# Altium footprint library Crystal.PcbLib: 185 footprints (part 8 of 12)
Each footprint in its own frame and in the unit in brackets; x right, y up, seen from the top. Pads: shape width x height; smd on the part's side, far side on the other; paste and mask are expansions set on the pad; w line width, h text height; cw(c..) or ccw(c..) is an arc to the next point about the centre after c.
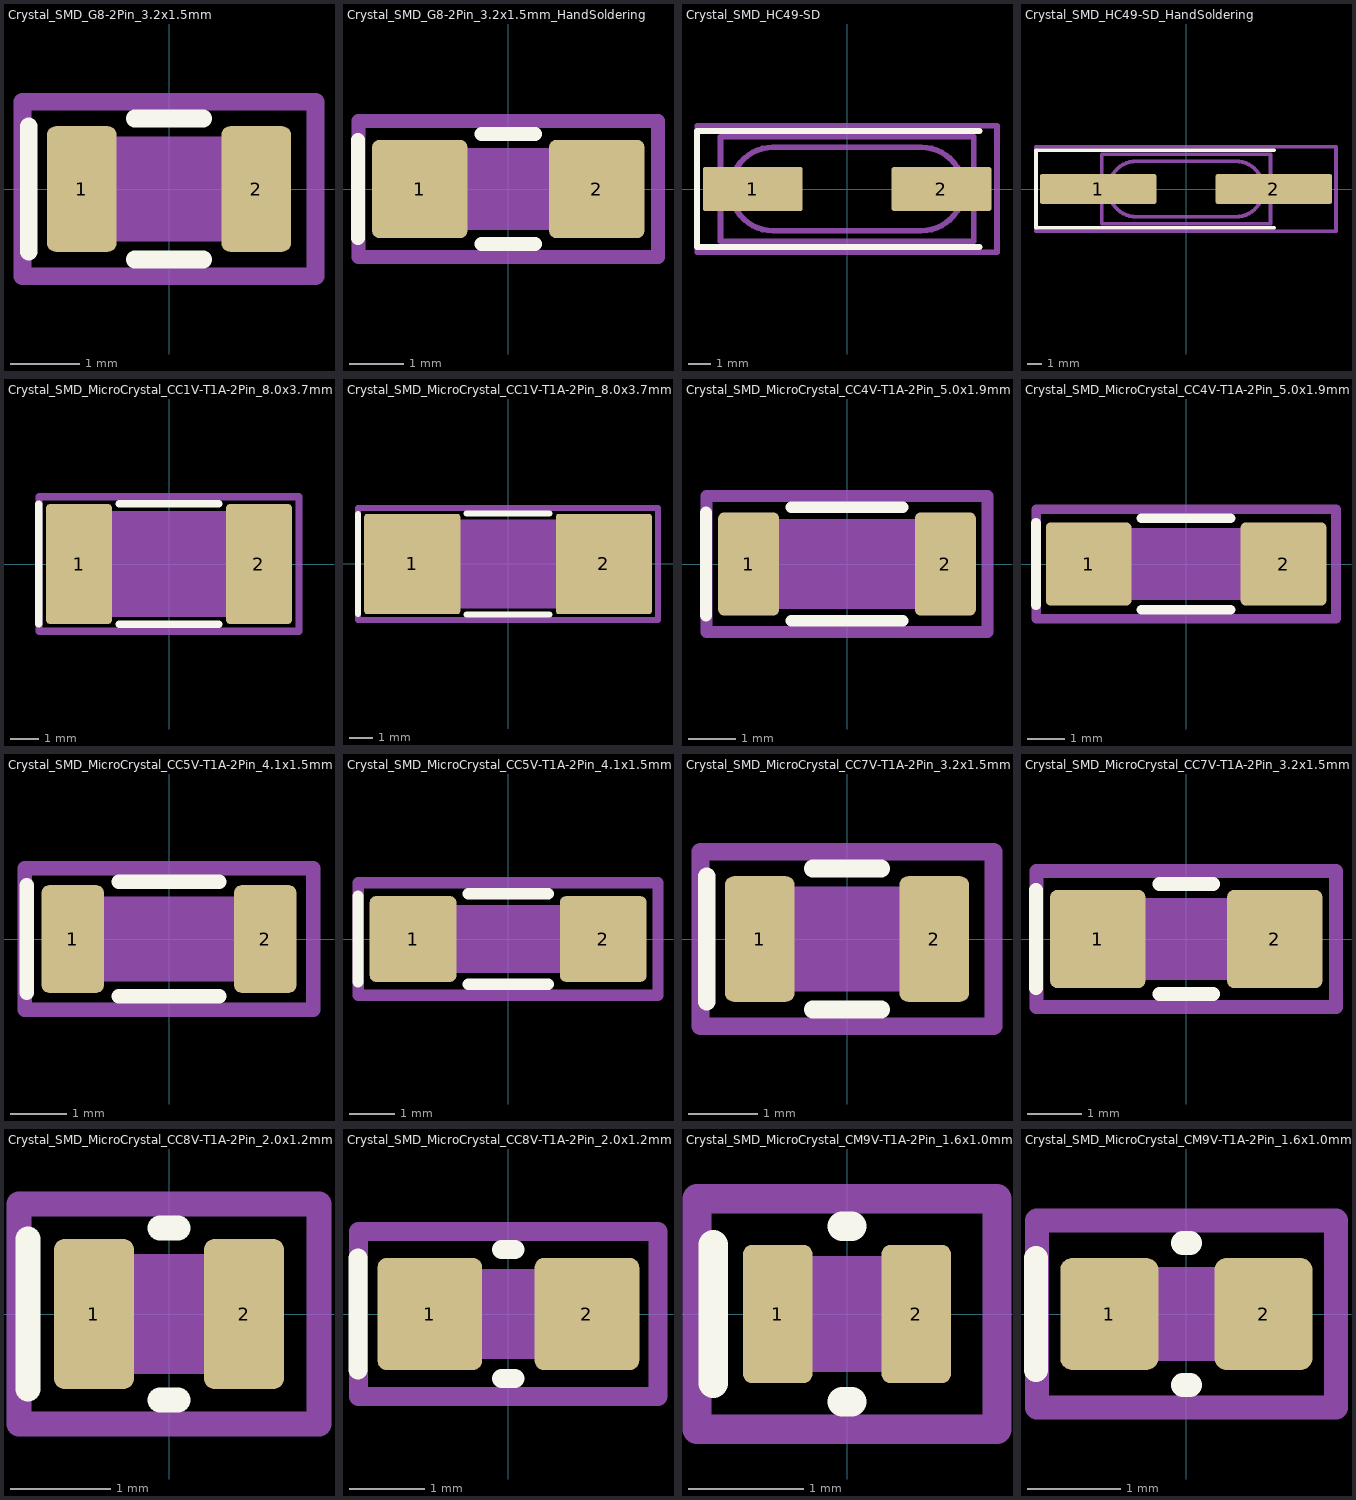
[diagram p7: the footprints below, top view; thin cyan lines are the x and y axes]

## Crystal_SMD_G8-2Pin_3.2x1.5mm [mm]
pads (2):
  rrect25% 1x1.8 smd: 1(-1.25,0) 2(1.25,0)
F.SilkS:
  lines w0.254: -2.01,-0.9 -2.01,0.9 ; -0.49,-1.01 0.49,-1.01 ; -0.49,1.01 0.49,1.01
Top Assembly:
  region: 1.6,-0.75 -1.225,-0.75 -1.6,-0.375 -1.6,0.75 1.6,0.75
  text "'.Designator'" at -3.237,-0.672 h0.8
Top Courtyard:
  lines w0.254: -2.1,-1.25 2.1,-1.25 2.1,1.25 -2.1,1.25 -2.1,-1.25
Top Designator:
  text ".Designator" at -7.738,-0.508 h1.52
Top Glue Points (Mech27):
  circle w0.254: c0,0 r0.25

## Crystal_SMD_G8-2Pin_3.2x1.5mm_HandSoldering [mm]
pads (2):
  rrect14% 1.75x1.8 smd: 1(-1.625,0) 2(1.625,0)
F.SilkS:
  lines w0.254: -2.76,-0.9 -2.76,0.9 ; -0.49,-1.01 0.49,-1.01 ; -0.49,1.01 0.49,1.01
Top Assembly:
  region: 1.6,-0.75 -1.225,-0.75 -1.6,-0.375 -1.6,0.75 1.6,0.75
  text "'.Designator'" at -3.237,-0.672 h0.8
Top Courtyard:
  lines w0.254: -2.75,-1.25 2.75,-1.25 2.75,1.25 -2.75,1.25 -2.75,-1.25
Top Designator:
  text ".Designator" at -7.738,-0.508 h1.52
Top Glue Points (Mech27):
  circle w0.254: c0,0 r0.25

## Crystal_SMD_HC49-SD [mm]
pads (2):
  rrect12% 4.5x2 smd: 1(-4.25,0) 2(4.25,0)
F.SilkS:
  lines w0.254: 5.96,-2.61 -6.76,-2.61 -6.76,2.61 5.96,2.61
Top Assembly:
  lines w0.254: -5.7,-2.35 5.7,-2.35 5.7,2.35 -5.7,2.35 -5.7,-2.35 ; -3.35,-1.88 cw(c-3.35,0) -3.35,1.88 3.35,1.88 cw(c3.35,0) 3.35,-1.88 -3.35,-1.88
  text "'.Designator'" at -4.047,-0.84 h1
Top Courtyard:
  lines w0.254: -6.75,-2.85 6.75,-2.85 6.75,2.85 -6.75,2.85 -6.75,-2.85
Top Designator:
  text ".Designator" at -7.623,-0.508 h1.52

## Crystal_SMD_HC49-SD_HandSoldering [mm]
pads (2):
  rrect12% 7.875x2 smd: 1(-5.937,0) 2(5.937,0)
F.SilkS:
  lines w0.254: 5.96,-2.61 -10.135,-2.61 -10.135,2.61 5.96,2.61
Top Assembly:
  lines w0.254: -5.7,-2.35 5.7,-2.35 5.7,2.35 -5.7,2.35 -5.7,-2.35 ; -3.35,-1.88 cw(c-3.35,0) -3.35,1.88 3.35,1.88 cw(c3.35,0) 3.35,-1.88 -3.35,-1.88
  text "'.Designator'" at -4.047,-0.84 h1
Top Courtyard:
  lines w0.254: -10.13,-2.85 10.13,-2.85 10.13,2.85 -10.13,2.85 -10.13,-2.85
Top Designator:
  text ".Designator" at -7.62,-0.508 h1.52

## Crystal_SMD_MicroCrystal_CC1V-T1A-2Pin_8.0x3.7mm [mm]
pads (2):
  rrect11% 2.3x4.2 smd: 1(-3.15,0) 2(3.15,0)
F.SilkS:
  lines w0.254: -4.56,-2.1 -4.56,2.1 ; -1.74,-2.11 1.74,-2.11 ; -1.74,2.11 1.74,2.11
Top Assembly:
  region: 4,-1.85 -3.075,-1.85 -4,-0.925 -4,1.85 4,1.85
  text "'.Designator'" at -4.047,-0.84 h1
Top Courtyard:
  lines w0.254: -4.55,-2.35 4.55,-2.35 4.55,2.35 -4.55,2.35 -4.55,-2.35
Top Designator:
  text ".Designator" at -7.623,-0.508 h1.52

## Crystal_SMD_MicroCrystal_CC1V-T1A-2Pin_8.0x3.7mm_HandSoldering [mm]
pads (2):
  rrect6% 4.025x4.2 smd: 1(-4.012,0) 2(4.012,0)
F.SilkS:
  lines w0.254: -6.285,-2.1 -6.285,2.1 ; -1.74,-2.11 1.74,-2.11 ; -1.74,2.11 1.74,2.11
Top Assembly:
  region: 4,-1.85 -3.075,-1.85 -4,-0.925 -4,1.85 4,1.85
  text "'.Designator'" at -4.047,-0.84 h1
Top Courtyard:
  lines w0.254: -6.28,-2.35 6.28,-2.35 6.28,2.35 -6.28,2.35 -6.28,-2.35
Top Designator:
  text ".Designator" at -7.62,-0.508 h1.52

## Crystal_SMD_MicroCrystal_CC4V-T1A-2Pin_5.0x1.9mm [mm]
pads (2):
  rrect19% 1.3x2.2 smd: 1(-2.1,0) 2(2.1,0)
F.SilkS:
  lines w0.254: -3.01,-1.1 -3.01,1.1 ; -1.19,-1.21 1.19,-1.21 ; -1.19,1.21 1.19,1.21
Top Assembly:
  region: 2.5,-0.95 -2.025,-0.95 -2.5,-0.475 -2.5,0.95 2.5,0.95
  text "'.Designator'" at -4.047,-0.84 h1
Top Courtyard:
  lines w0.254: -3,-1.45 3,-1.45 3,1.45 -3,1.45 -3,-1.45
Top Designator:
  text ".Designator" at -7.768,-0.508 h1.52

## Crystal_SMD_MicroCrystal_CC4V-T1A-2Pin_5.0x1.9mm_HandSoldering [mm]
pads (2):
  rrect11% 2.275x2.2 smd: 1(-2.588,0) 2(2.588,0)
F.SilkS:
  lines w0.254: -3.985,-1.1 -3.985,1.1 ; -1.19,-1.21 1.19,-1.21 ; -1.19,1.21 1.19,1.21
Top Assembly:
  region: 2.5,-0.95 -2.025,-0.95 -2.5,-0.475 -2.5,0.95 2.5,0.95
  text "'.Designator'" at -4.047,-0.84 h1
Top Courtyard:
  lines w0.254: -3.98,-1.45 3.98,-1.45 3.98,1.45 -3.98,1.45 -3.98,-1.45
Top Designator:
  text ".Designator" at -7.662,-0.508 h1.52

## Crystal_SMD_MicroCrystal_CC5V-T1A-2Pin_4.1x1.5mm [mm]
pads (2):
  rrect23% 1.1x1.9 smd: 1(-1.7,0) 2(1.7,0)
F.SilkS:
  lines w0.254: -2.51,-0.95 -2.51,0.95 ; -0.89,-1.01 0.89,-1.01 ; -0.89,1.01 0.89,1.01
Top Assembly:
  region: 2.05,-0.75 -1.675,-0.75 -2.05,-0.375 -2.05,0.75 2.05,0.75
  text "'.Designator'" at -4.047,-0.84 h1
Top Courtyard:
  lines w0.254: -2.55,-1.25 2.55,-1.25 2.55,1.25 -2.55,1.25 -2.55,-1.25
Top Designator:
  text ".Designator" at -7.768,-0.508 h1.52

## Crystal_SMD_MicroCrystal_CC5V-T1A-2Pin_4.1x1.5mm_HandSoldering [mm]
pads (2):
  rrect13% 1.925x1.9 smd: 1(-2.113,0) 2(2.113,0)
F.SilkS:
  lines w0.254: -3.335,-0.95 -3.335,0.95 ; -0.89,-1.01 0.89,-1.01 ; -0.89,1.01 0.89,1.01
Top Assembly:
  region: 2.05,-0.75 -1.675,-0.75 -2.05,-0.375 -2.05,0.75 2.05,0.75
  text "'.Designator'" at -4.047,-0.84 h1
Top Courtyard:
  lines w0.254: -3.33,-1.25 3.33,-1.25 3.33,1.25 -3.33,1.25 -3.33,-1.25
Top Designator:
  text ".Designator" at -7.768,-0.508 h1.52

## Crystal_SMD_MicroCrystal_CC7V-T1A-2Pin_3.2x1.5mm [mm]
pads (2):
  rrect25% 1x1.8 smd: 1(-1.25,0) 2(1.25,0)
F.SilkS:
  lines w0.254: -2.01,-0.9 -2.01,0.9 ; -0.49,-1.01 0.49,-1.01 ; -0.49,1.01 0.49,1.01
Top Assembly:
  region: 1.6,-0.75 -1.225,-0.75 -1.6,-0.375 -1.6,0.75 1.6,0.75
  text "'.Designator'" at -3.237,-0.672 h0.8
Top Courtyard:
  lines w0.254: -2.1,-1.25 2.1,-1.25 2.1,1.25 -2.1,1.25 -2.1,-1.25
Top Designator:
  text ".Designator" at -7.738,-0.508 h1.52

## Crystal_SMD_MicroCrystal_CC7V-T1A-2Pin_3.2x1.5mm_HandSoldering [mm]
pads (2):
  rrect14% 1.75x1.8 smd: 1(-1.625,0) 2(1.625,0)
F.SilkS:
  lines w0.254: -2.76,-0.9 -2.76,0.9 ; -0.49,-1.01 0.49,-1.01 ; -0.49,1.01 0.49,1.01
Top Assembly:
  region: 1.6,-0.75 -1.225,-0.75 -1.6,-0.375 -1.6,0.75 1.6,0.75
  text "'.Designator'" at -3.237,-0.672 h0.8
Top Courtyard:
  lines w0.254: -2.75,-1.25 2.75,-1.25 2.75,1.25 -2.75,1.25 -2.75,-1.25
Top Designator:
  text ".Designator" at -7.738,-0.508 h1.52

## Crystal_SMD_MicroCrystal_CC8V-T1A-2Pin_2.0x1.2mm [mm]
pads (2):
  rrect25% 0.8x1.5 smd: 1(-0.75,0) 2(0.75,0)
F.SilkS:
  lines w0.254: -1.41,-0.75 -1.41,0.75 ; -0.09,-0.86 0.09,-0.86 ; -0.09,0.86 0.09,0.86
Top Assembly:
  region: 1,-0.6 -0.7,-0.6 -1,-0.3 -1,0.6 1,0.6
  text "'.Designator'" at -2.028,-0.425 h0.5
Top Courtyard:
  lines w0.254: -1.5,-1.1 1.5,-1.1 1.5,1.1 -1.5,1.1 -1.5,-1.1
Top Designator:
  text ".Designator" at -7.698,-0.508 h1.52

## Crystal_SMD_MicroCrystal_CC8V-T1A-2Pin_2.0x1.2mm_HandSoldering [mm]
pads (2):
  rrect18% 1.4x1.5 smd: 1(-1.05,0) 2(1.05,0)
F.SilkS:
  lines w0.254: -2.01,-0.75 -2.01,0.75 ; -0.09,-0.86 0.09,-0.86 ; -0.09,0.86 0.09,0.86
Top Assembly:
  region: 1,-0.6 -0.7,-0.6 -1,-0.3 -1,0.6 1,0.6
  text "'.Designator'" at -2.028,-0.425 h0.5
Top Courtyard:
  lines w0.254: -2,-1.1 2,-1.1 2,1.1 -2,1.1 -2,-1.1
Top Designator:
  text ".Designator" at -7.623,-0.508 h1.52

## Crystal_SMD_MicroCrystal_CM9V-T1A-2Pin_1.6x1.0mm [mm]
pads (2):
  rrect25% 0.6x1.2 smd: 1(-0.6,0) 2(0.6,0)
F.SilkS:
  lines w0.254: -1.16,-0.6 -1.16,0.6 ; -0.04,-0.76 0.04,-0.76 ; -0.04,0.76 0.04,0.76
Top Assembly:
  region: 0.8,-0.5 -0.55,-0.5 -0.8,-0.25 -0.8,0.5 0.8,0.5
  text "'.Designator'" at -1.619,-0.336 h0.4
Top Courtyard:
  lines w0.254: -1.3,-1 1.3,-1 1.3,1 -1.3,1 -1.3,-1
Top Designator:
  text ".Designator" at -7.678,-0.508 h1.52

## Crystal_SMD_MicroCrystal_CM9V-T1A-2Pin_1.6x1.0mm_HandSoldering [mm]
pads (2):
  rrect24% 1.05x1.2 smd: 1(-0.825,0) 2(0.825,0)
F.SilkS:
  lines w0.254: -1.61,-0.6 -1.61,0.6 ; -0.04,-0.76 0.04,-0.76 ; -0.04,0.76 0.04,0.76
Top Assembly:
  region: 0.8,-0.5 -0.55,-0.5 -0.8,-0.25 -0.8,0.5 0.8,0.5
  text "'.Designator'" at -1.619,-0.336 h0.4
Top Courtyard:
  lines w0.254: -1.6,-1 1.6,-1 1.6,1 -1.6,1 -1.6,-1
Top Designator:
  text ".Designator" at -7.623,-0.508 h1.52